# Altium schematic symbol library SCH - MCU - SI LABS - SI LABS EFM32HG350F32 36-PIN CSP 3X3.SchLib: 1 symbol
Pins are listed as number, name and electrical type; pins without a type are passive.

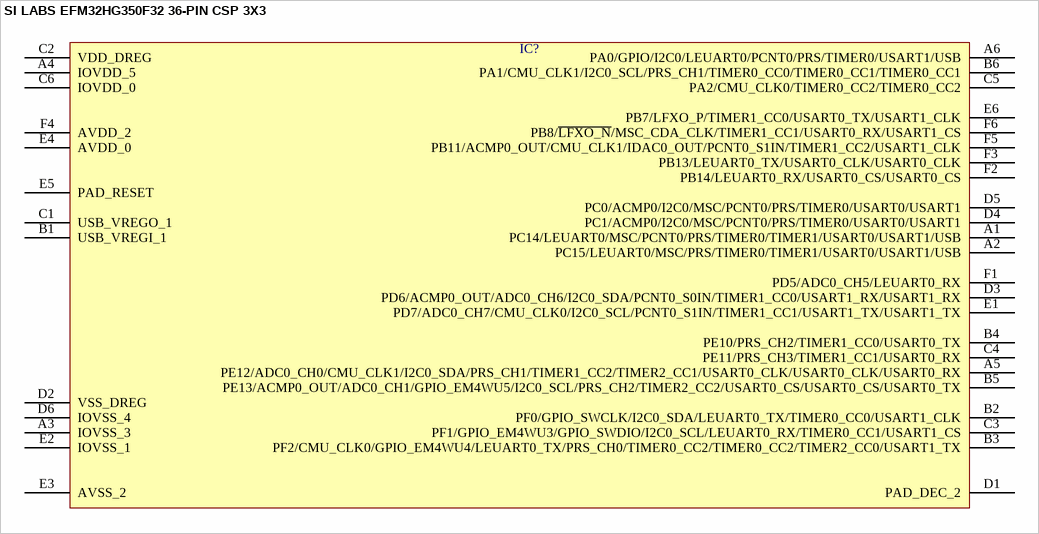
[diagram p0: symbol SI LABS EFM32HG350F32 36-PIN CSP 3X3]

## SI LABS EFM32HG350F32 36-PIN CSP 3X3
designator IC?  (value not drawn)
pins: A1 PC14/LEUART0/MSC/PCNT0/PRS/TIMER0/TIMER1/USART0/USART1/USB, A2 PC15/LEUART0/MSC/PRS/TIMER0/TIMER1/USART0/USART1/USB, A3 IOVSS_3, A4 IOVDD_5, A5 PE12/ADC0_CH0/CMU_CLK1/I2C0_SDA/PRS_CH1/TIMER1_CC2/TIMER2_CC1/USART0_CLK/USART0_CLK/USART0_RX, A6 PA0/GPIO/I2C0/LEUART0/PCNT0/PRS/TIMER0/USART1/USB, B1 USB_VREGI_1, B2 PF0/GPIO_SWCLK/I2C0_SDA/LEUART0_TX/TIMER0_CC0/USART1_CLK, B3 PF2/CMU_CLK0/GPIO_EM4WU4/LEUART0_TX/PRS_CH0/TIMER0_CC2/TIMER0_CC2/TIMER2_CC0/USART1_TX, B4 PE10/PRS_CH2/TIMER1_CC0/USART0_TX, B5 PE13/ACMP0_OUT/ADC0_CH1/GPIO_EM4WU5/I2C0_SCL/PRS_CH2/TIMER2_CC2/USART0_CS/USART0_CS/USART0_TX, B6 PA1/CMU_CLK1/I2C0_SCL/PRS_CH1/TIMER0_CC0/TIMER0_CC1/TIMER0_CC1, C1 USB_VREGO_1, C2 VDD_DREG, C3 PF1/GPIO_EM4WU3/GPIO_SWDIO/I2C0_SCL/LEUART0_RX/TIMER0_CC1/USART1_CS, C4 PE11/PRS_CH3/TIMER1_CC1/USART0_RX, C5 PA2/CMU_CLK0/TIMER0_CC2/TIMER0_CC2, C6 IOVDD_0, D1 PAD_DEC_2, D2 VSS_DREG, D3 PD6/ACMP0_OUT/ADC0_CH6/I2C0_SDA/PCNT0_S0IN/TIMER1_CC0/USART1_RX/USART1_RX, D4 PC1/ACMP0/I2C0/MSC/PCNT0/PRS/TIMER0/USART0/USART1, D5 PC0/ACMP0/I2C0/MSC/PCNT0/PRS/TIMER0/USART0/USART1, D6 IOVSS_4, E1 PD7/ADC0_CH7/CMU_CLK0/I2C0_SCL/PCNT0_S1IN/TIMER1_CC1/USART1_TX/USART1_TX, E2 IOVSS_1, E3 AVSS_2, E4 AVDD_0, E5 PAD_RESET, E6 PB7/LFXO_P/TIMER1_CC0/USART0_TX/USART1_CLK, F1 PD5/ADC0_CH5/LEUART0_RX, F2 PB14/LEUART0_RX/USART0_CS/USART0_CS, F3 PB13/LEUART0_TX/USART0_CLK/USART0_CLK, F4 AVDD_2, F5 PB11/ACMP0_OUT/CMU_CLK1/IDAC0_OUT/PCNT0_S1IN/TIMER1_CC2/USART1_CLK, F6 PB8/~{LFXO_N}/MSC_CDA_CLK/TIMER1_CC1/USART0_RX/USART1_CS